# Altium footprint library Cap2828.PcbLib: 1 footprints
Each footprint in its own frame and in the unit in brackets; x right, y up, seen from the top. Pads: shape width x height; smd on the part's side, far side on the other; paste and mask are expansions set on the pad; w line width, h text height; cw(c..) or ccw(c..) is an arc to the next point about the centre after c.
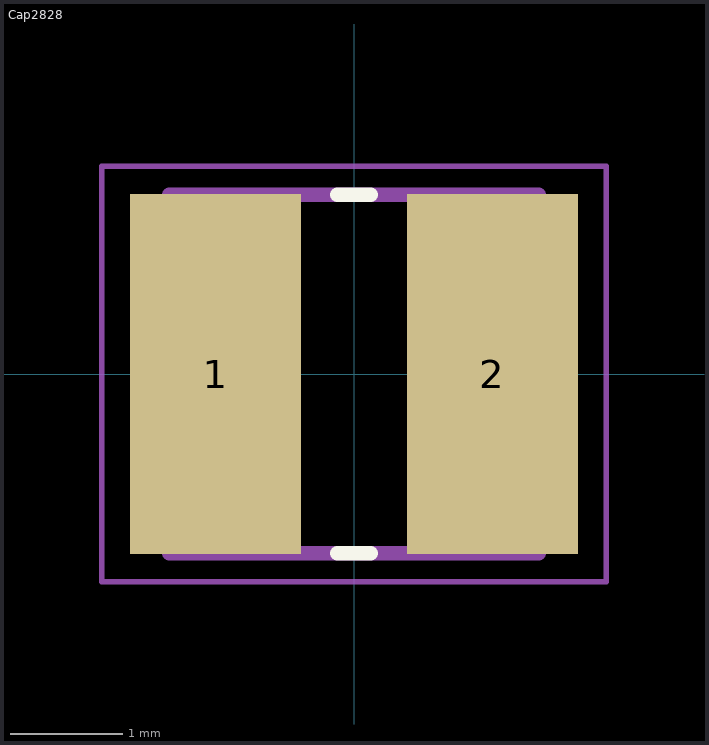
[diagram p0: the footprint, top view; thin cyan lines are the x and y axes]

## Cap2828 [mm]
pads (2):
  rect 1.53x3.21 smd: 1(-1.236,0) 2(1.236,0)
Top Overlay:
  lines w0.127: -0.15,-1.6 0.15,-1.6 ; -0.15,1.6 0.15,1.6
Mechanical 13:
  lines w0.127: -1.65,-1.6 -1.65,1.6 1.65,1.6 1.65,-1.6 -1.65,-1.6
Mechanical 15:
  lines w0.05: -2.253,-1.854 -2.253,1.854 2.253,1.854 2.253,-1.854 -2.253,-1.854
3D body "GQM22M5C2H5R6CB01K.STEP": height 1.35, standoff 0, extent -1.4,-1.4 1.4,1.4